# Altium schematic symbol library RCA.SchLib: 1 symbol
Pins are listed as number, name and electrical type; pins without a type are passive.

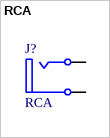
[diagram p0: symbol RCA]

## RCA
designator J?
RCA Phono Jack, Right Angle, Thru-Hole, Snap-In
signal-integrity model RCA ([Unknown model type, plugin missing])
footprint RCJ-044 (Two Conductor Jack (RCA), Right Angle, Thru-Hole, Body 10x10x13 mm (WxTxH))
pins: 1 Ground (power) "Outer Shield (Sleeve)", 2 Signal "Center Pin (Plug Tip)"